# Altium footprint library StandardCapacitors.PcbLib: 10 footprints
Each footprint in its own frame and in the unit in brackets; x right, y up, seen from the top. Pads: shape width x height; smd on the part's side, far side on the other; paste and mask are expansions set on the pad; w line width, h text height; cw(c..) or ccw(c..) is an arc to the next point about the centre after c.
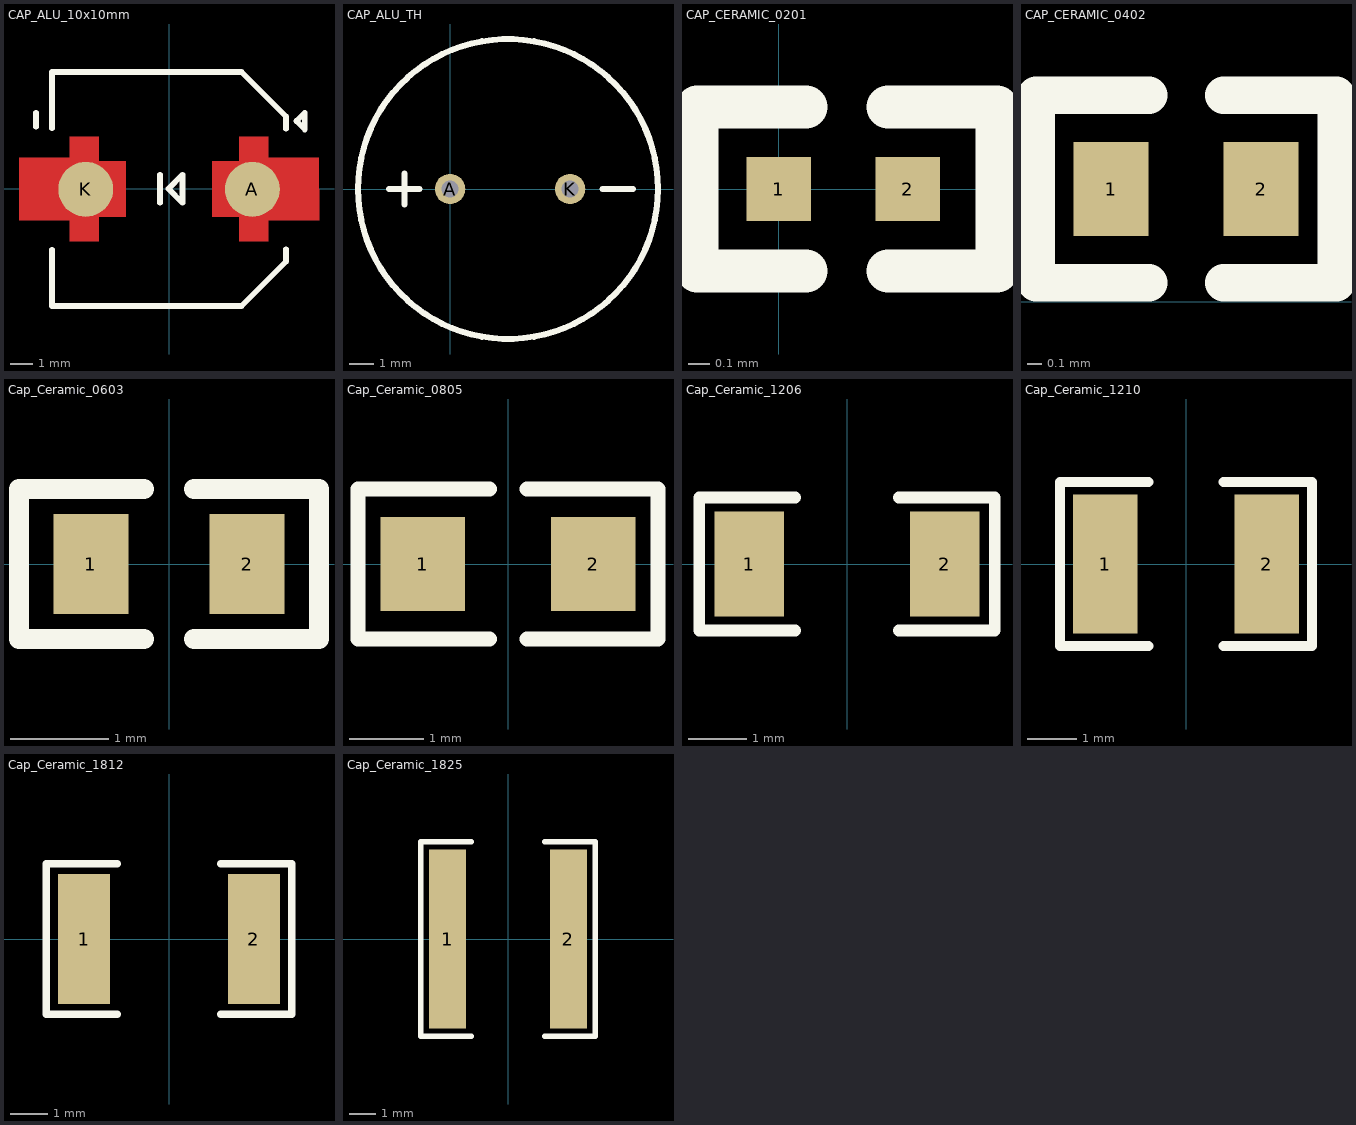
[diagram p0: the footprints below, top view; thin cyan lines are the x and y axes]

## CAP_ALU_10x10mm [mil]
pads (2):
  round 97.08 smd paste+0 mask+0: A(147.18,-0.5) K(-147.11,-0.5)
Top Layer:
  region: -76.74,-49.22 -76.74,49.21 -123.98,49.21 -123.98,92.52 -175.16,92.52 -175.16,55 -265,55 -265,-55 -175.16,-55 -175.16,-92.52 -123.98,-92.52 -123.98,-49.22
  region: 76.8,-49.22 76.8,49.21 124.05,49.21 124.05,92.52 175.23,92.52 175.23,55 265,55 265,-55 175.23,-55 175.23,-92.52 124.05,-92.52 124.05,-49.22
Top Overlay:
  lines w10: -235,110 -235,135 ; -206.66,-107.29 -206.66,-206.7 127.98,-206.7 206.72,-127.96 206.72,-106.3 ; -206.66,107.28 -206.66,206.69 127.98,206.69 206.72,127.95 206.72,106.3 ; -16.02,-24.54 -16.02,25.46 ; -1.02,0.46 23.98,-24.54 23.98,25.46 -1.02,0.46 ; 225,120 240,105 240,135 225,120
3D body "Cap_Panasonic_EEH-ZC1K470V_eec.STEP": height 10, standoff 0, extent -259.81,-216.54 259.87,216.53

## CAP_ALU_TH [mm]
pads (2):
  round 1.27 hole 0.7: A(0,0) K(5,0)
Top Overlay:
  circle w0.254: c2.413,0 r6.25
  lines w0.254: -2.54,0 -1.27,0 ; -1.905,-0.635 -1.905,0.635 ; 6.35,0 7.62,0
3D body "cpol-v_p5_d12-5_h20.stp": height 20.01, standoff -2.8, extent -3.749,-6.248 8.75,6.248

## CAP_CERAMIC_0201 [mm]
pads (2):
  rect 0.3x0.3 smd: 1(0,0) 2(0.6,0)
Top Overlay:
  lines w0.2: 0.127,-0.381 -0.381,-0.381 -0.381,0.381 0.127,0.381 ; 0.508,-0.381 1.016,-0.381 1.016,0.381 0.508,0.381
3D body "csmd-0201_l0-6_w0-3_h0-33.stp": height 0.35, standoff 0.05, extent 0,-0.165 0.6,0.165

## CAP_CERAMIC_0402 [mil]
pads (2):
  rect 20x25 smd: 1(-70,30) 2(-30,30)
Top Overlay:
  lines w10: -60,5 -90,5 -90,55 -60,55 ; -40,5 -10,5 -10,55 -40,55
3D body "csmd-0402_l1_w0-5_h0-56.stp": height 22.05, standoff 0, extent -69.69,20.16 -30.31,39.84

## Cap_Ceramic_0603 [mil]
pads (2):
  rect 30x40 smd: 1(-31.24,0) 2(31.24,0)
Top Overlay:
  lines w8: -10,-30 -60,-30 -60,30 -10,30 ; 10,-30 60,-30 60,30 10,30
3D body "ceramic_cap_0603.stp": height 33.46, standoff 0, extent -31.49,-15.74 31.51,15.75

## Cap_Ceramic_0805 [mil]
pads (2):
  rect 45x50 smd: 1(-45.43,0) 2(45.43,0)
Top Overlay:
  lines w8: -10,-40 -80,-40 -80,40 -10,40 ; 10,-40 80,-40 80,40 10,40
3D body "ceramic_cap_0805.stp": height 43.31, standoff 0, extent -39.36,-25.58 39.38,25.6

## Cap_Ceramic_1206 [mil]
pads (2):
  rect 47x71 smd: 1(-66.08,0) 2(66.08,0)
Top Overlay:
  lines w8: -35,-45 -100,-45 -100,45 -35,45 ; 35,-45 100,-45 100,45 35,45
3D body "ceramic_cap_1206.stp": height 53.15, standoff 0, extent -62.99,-31.49 63,31.5

## Cap_Ceramic_1210 [mm]
pads (2):
  rect 1.3x2.8 smd: 1(-1.625,0) 2(1.625,0)
Top Overlay:
  lines w0.203: -0.762,-1.651 -2.54,-1.651 -2.54,1.651 -0.762,1.651 ; 0.762,-1.651 2.54,-1.651 2.54,1.651 0.762,1.651
3D body "ceramic_cap_1210.stp": height 1.35, standoff 0, extent -1.6,-1.25 1.6,1.25

## Cap_Ceramic_1812 [mil]
pads (2):
  rect 55x138 smd: 1(-90,0) 2(90,0)
Top Overlay:
  lines w8: -55,-80 -130,-80 -130,80 -55,80 ; 55,-80 130,-80 130,80 55,80
3D body "ceramic_cap_1812.stp": height 53.15, standoff 0, extent -88.58,-62.99 88.59,63

## Cap_Ceramic_1825 [mm]
pads (2):
  rect 1.4x6.8 smd: 1(-2.286,0) 2(2.286,0)
Top Overlay:
  lines w0.203: -1.397,-3.683 -3.302,-3.683 -3.302,3.683 -1.397,3.683 ; 1.397,-3.683 3.302,-3.683 3.302,3.683 1.397,3.683
3D body "ceramic_cap_1825.stp": height 1.1, standoff 0, extent -2.25,-3.2 2.25,3.2